# Altium footprint library PcbLib1.PcbLib: 1 footprints
Each footprint in its own frame and in the unit in brackets; x right, y up, seen from the top. Pads: shape width x height; smd on the part's side, far side on the other; paste and mask are expansions set on the pad; w line width, h text height; cw(c..) or ccw(c..) is an arc to the next point about the centre after c.
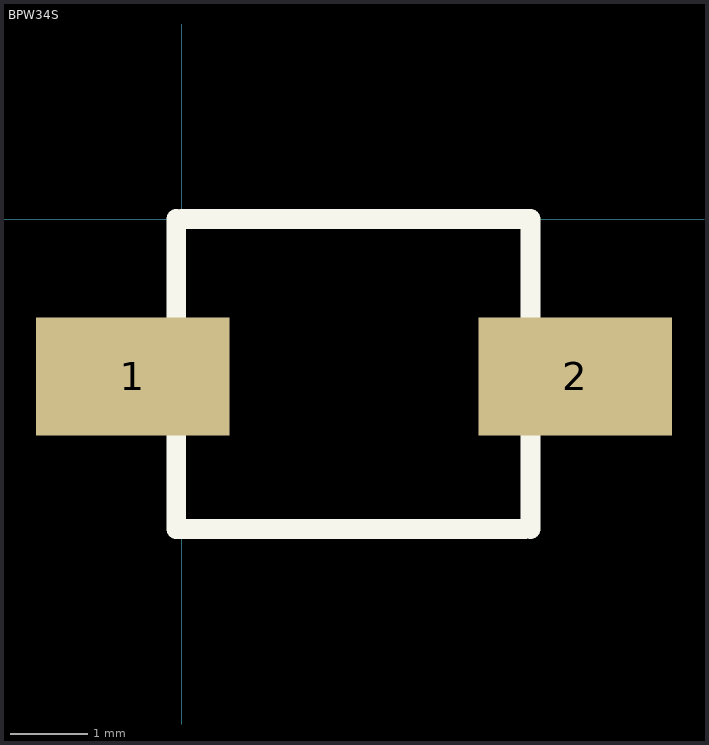
[diagram p0: the footprint, top view; thin cyan lines are the x and y axes]

## BPW34S [mil]
pads (2):
  rect 98.43x60 smd: 1(-25,-80) 2(200,-80)
Top Overlay:
  lines w10: -2.83,0 -2.83,-157.48 174.33,-157.48 ; 0,0 177.17,0 177.17,-157.48